# EAGLE library part 33291DW (library X893)
Eight Output Switch with Serial Peripheral Interface I/O
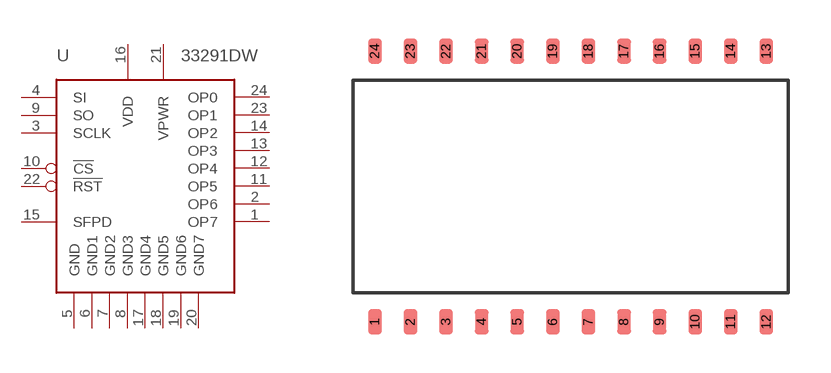
[diagram p5: symbol with the pads of SO24; footprint SO24]

Designator prefix -

## 33291DW  [SO24]
1  OP7  oc
2  OP6  oc
3  SCLK  in
4  SI  in
5  GND  pwr
6  GND1  pwr
7  GND2  pwr
8  GND3  pwr
9  SO
10  !CS  in
11  OP5  oc
12  OP4  oc
13  OP3  oc
14  OP2  oc
15  SFPD  in
16  VDD  pwr
17  GND4  pwr
18  GND5  pwr
19  GND6  pwr
20  GND7  pwr
21  VPWR  pwr
22  !RST  in
23  OP1  oc
24  OP0  oc

## Footprint SO24 (pad centres in mm)
smd 0.483 x 0.889: 1 -6.35,-4.826; 2 -5.08,-4.826; 3 -3.81,-4.826; 4 -2.54,-4.826; 5 -1.27,-4.826; 6 0,-4.826; 7 1.27,-4.826; 8 2.54,-4.826; 9 3.81,-4.826; 10 5.08,-4.826; 11 6.35,-4.826; 12 7.62,-4.826; 13 7.62,4.826; 14 6.35,4.826; 15 5.08,4.826; 16 3.81,4.826; 17 2.54,4.826; 18 1.27,4.826; 19 0,4.826; 20 -1.27,4.826; 21 -2.54,4.826; 22 -3.81,4.826; 23 -5.08,4.826; 24 -6.35,4.826